# EAGLE library part SER_OUT_2X3 (library myparts_201805)
2x3 Female angle break away for serial and power to next board
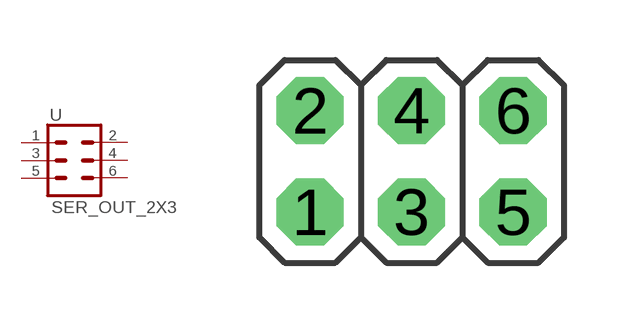
[diagram p3: symbol with the pads of 2X03; footprint 2X03]

Designator prefix -

## SER_OUT_2X3 (AVAILABILITY: adafruit good; DESCRIPTION: female 2x3 ouput serial; MF: adafruit; MP: 2x3 female break away; PACKAGE: female 2x3 break away; PRICE: .70)  [2X03]
1  1
2  2
3  3
4  4
5  5
6  6

## Footprint 2X03 (pad centres in mm)
PIN HEADER
drill 1.016 pad 1.676 octagon: 1 -3.81,-1.27; 2 -3.81,1.27; 3 -1.27,-1.27; 4 -1.27,1.27; 5 1.27,-1.27; 6 1.27,1.27